# EAGLE library part TPS61086 (library bschulz)
TPS61086 - Step Up Converter (Boost) Characteristics: Vin: 2.3V ~ 6V Vout: 2.8V ~ 18.5V Output Current: 2 A Operating Temperature: -40°C to 85°C Digikey: 296-37680-1-ND <https://www.digikey.com/product-detail/en/texas-instruments/TPS61086DRCR/296-37680-1-ND/4833912>
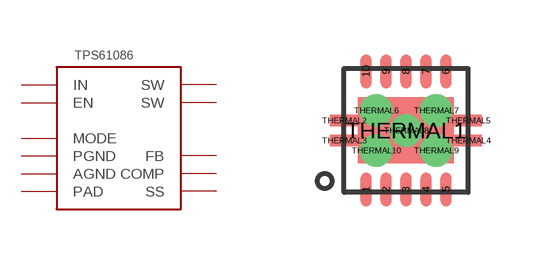
[diagram p32: symbol with the pads of VSON-10; footprint VSON-10]

Designator prefix -

## TPS61086 (DIGIKEY: 296-37680-1-ND; MF: TI; MPN: TPS61086DRCR)  [VSON-10]
1  COMP
2  FB
3  EN  in
4  AGND  pwr
5  PGND  pwr
6  SW  pwr
7  SW  pwr
8  IN  pwr
9  MODE  in
10  SS
THERMAL1  PAD  pwr
THERMAL2  PAD  pwr
THERMAL3  PAD  pwr
THERMAL4  PAD  pwr
THERMAL5  PAD  pwr
THERMAL6  PAD  pwr
THERMAL7  PAD  pwr
THERMAL8  PAD  pwr
THERMAL9  PAD  pwr
THERMAL10  PAD  pwr

## Footprint VSON-10 (pad centres in mm)
smd 0.28 x 0.85: 1 -1,-1.475; 2 -0.5,-1.475; 3 0,-1.475; 4 0.5,-1.475; 5 1,-1.475; 6 1,1.475; 7 0.5,1.475; 8 0,1.475; 9 -0.5,1.475; 10 -1,1.475
smd 2.4 x 1.65: THERMAL1 0,0
smd 0.7 x 0.28: THERMAL2 -1.55,0.25; THERMAL3 -1.55,-0.25; THERMAL4 1.55,-0.25; THERMAL5 1.55,0.25
drill 0.3 pad 0.406: THERMAL6 -0.75,0.5; THERMAL7 0.75,0.5; THERMAL8 0,0; THERMAL9 0.75,-0.5; THERMAL10 -0.75,-0.5